# Altium footprint library Nucleo_H7.PcbLib: 1 footprints
Each footprint in its own frame and in the unit in brackets; x right, y up, seen from the top. Pads: shape width x height; smd on the part's side, far side on the other; paste and mask are expansions set on the pad; w line width, h text height; cw(c..) or ccw(c..) is an arc to the next point about the centre after c.
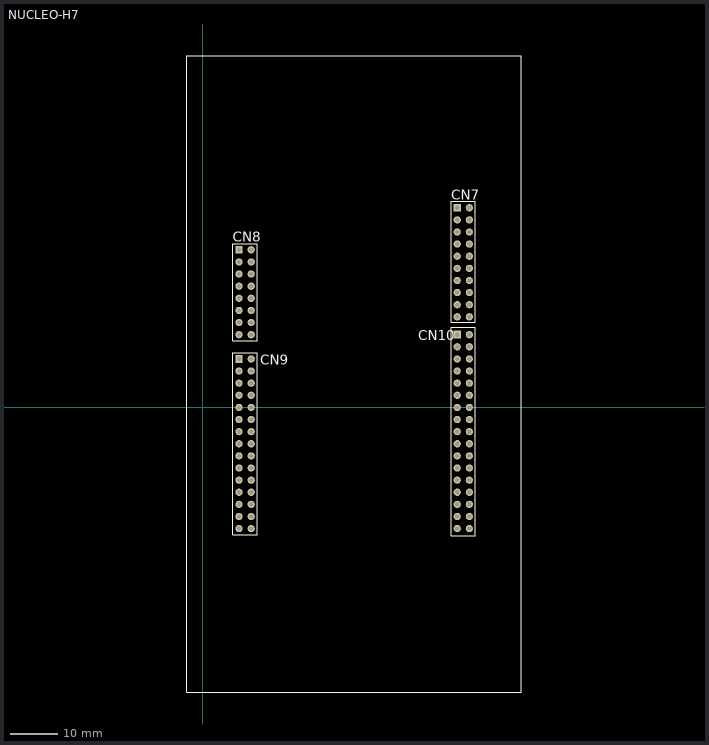
[diagram p0: the footprint, top view; thin cyan lines are the x and y axes]

## NUCLEO-H7 [mm]
pads (100):
  rect 1.52x1.65 hole 0.914 paste-2539.97 mask+0.051: 145(7.62,33.02) 161(7.62,10.16) 191(53.34,41.834) 211(53.34,15.24)
  round 1.52 hole 0.89 paste-2539.97 mask+0.051: 146(10.16,33.02) 147(7.62,30.48) 148(10.16,30.48) 149(7.62,27.94) 150(10.16,27.94) 151(7.62,25.4) 152(10.16,25.4) 153(7.62,22.86) 154(10.16,22.86) 155(7.62,20.32) 156(10.16,20.32) 157(7.62,17.78) 158(10.16,17.78) 159(7.62,15.24) 160(10.16,15.24) 162(10.16,10.16) 163(7.62,7.62) 164(10.16,7.62) 165(7.62,5.08) 166(10.16,5.08) 167(7.62,2.54) 168(10.16,2.54) 169(7.62,0) 170(10.16,0) 171(7.62,-2.54) 172(10.16,-2.54) 173(7.62,-5.08) 174(10.16,-5.08) 175(7.62,-7.62) 176(10.16,-7.62) 177(7.62,-10.16) 178(10.16,-10.16) 179(7.62,-12.7) 180(10.16,-12.7) 181(7.62,-15.24) 182(10.16,-15.24) 183(7.62,-17.78) 184(10.16,-17.78) 185(7.62,-20.32) 186(10.16,-20.32) 187(7.62,-22.86) 188(10.16,-22.86) 189(7.62,-25.4) 190(10.16,-25.4) 192(55.88,41.834) 193(53.34,39.294) 194(55.88,39.294) 195(53.34,36.754) 196(55.88,36.754) 197(53.34,34.214) 198(55.88,34.214) 199(53.34,31.674) 200(55.88,31.674) 201(53.34,29.134) 202(55.88,29.134) 203(53.34,26.594) 204(55.88,26.594) 205(53.34,24.054) 206(55.88,24.054) 207(53.34,21.514) 208(55.88,21.514) 209(53.34,18.974) 210(55.88,18.974) 212(55.88,15.24) 213(53.34,12.7) 214(55.88,12.7) 215(53.34,10.16) 216(55.88,10.16) 217(53.34,7.62) 218(55.88,7.62) 219(53.34,5.08) 220(55.88,5.08) 221(53.34,2.54) 222(55.88,2.54) 223(53.34,0) 224(55.88,0) 225(53.34,-2.54) 226(55.88,-2.54) 227(53.34,-5.08) 228(55.88,-5.08) 229(53.34,-7.62) 230(55.88,-7.62) 231(53.34,-10.16) 232(55.88,-10.16) 233(53.34,-12.7) 234(55.88,-12.7) 235(53.34,-15.24) 236(55.88,-15.24) 237(53.34,-17.78) 238(55.88,-17.78) 239(53.34,-20.32) 240(55.88,-20.32) 241(53.34,-22.86) 242(55.88,-22.86) 243(53.34,-25.4) 244(55.88,-25.4)
Top Overlay:
  lines w0.254: -3.291,-59.674 66.709,-59.674 66.709,73.667 -3.291,73.667 -3.291,-59.674 ; 6.333,13.962 11.413,13.962 11.413,34.318 6.333,34.318 6.333,13.962 ; 6.35,-26.639 11.43,-26.639 11.43,11.43 6.35,11.43 6.35,-26.639 ; 52.057,17.873 57.137,17.873 57.137,43.216 52.057,43.216 52.057,17.873 ; 52.07,-26.861 57.15,-26.861 57.15,16.84 52.07,16.84 52.07,-26.861
  text "CN9" at 12.09,8.966 h2.03
  text "CN10" at 45.161,14.046 h2.03
  text "CN7" at 52.07,43.485 h2.03
  text "CN8" at 6.35,34.671 h2.03
Bottom Overlay:
  text "30-" at 12.302,-25.65 h0.5
  text "20-" at 12.387,-12.932 h0.5
  text "10-" at 12.09,-0.25 h0.5
  text "-1" at 6.833,9.66 h1
  text "30-" at 57.946,-20.57 h0.5
  text "20-" at 58.031,-7.852 h0.5
  text "10-" at 57.76,4.83 h0.5
  text "-1" at 52.553,14.74 h1
  text "10-" at 12.09,22.61 h0.5
  text "-1" at 6.833,32.52 h1
  text "-1" at 52.553,41.334 h1
  text "20-" at 58.082,18.717 h0.5
  text "10-" at 57.81,31.398 h0.5